# Altium footprint library VTS_demo.PcbLib: 8 footprints
Each footprint in its own frame and in the unit in brackets; x right, y up, seen from the top. Pads: shape width x height; smd on the part's side, far side on the other; paste and mask are expansions set on the pad; w line width, h text height; cw(c..) or ccw(c..) is an arc to the next point about the centre after c.
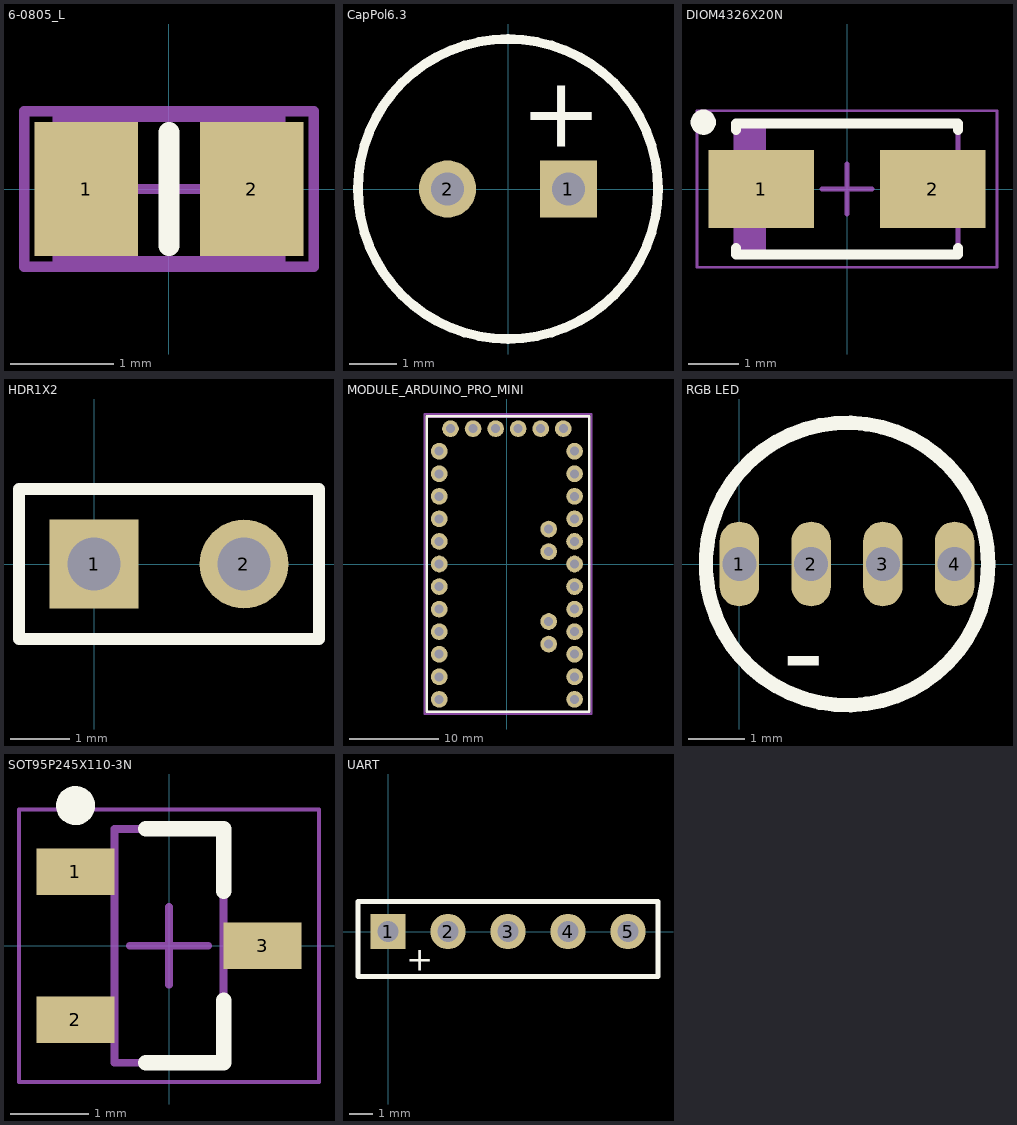
[diagram p0: the footprints below, top view; thin cyan lines are the x and y axes]

## 6-0805_L [mm] "Chip Resistor, Body 2.0x1.2mm, IPC High Density"
height 0.7
pads (2):
  rect 1x1.3 smd: 1(-0.8,0) 2(0.8,0)
Top Overlay:
  lines w0.2: 0,-0.55 0,0.55
Mechanical 13:
  lines w0.1: -1.075,-0.7 1.075,-0.7 1.075,0.7 -1.075,0.7 -1.075,-0.7
Mechanical 15:
  lines w0.1: -0.5,0 0.5,0 ; 0,-0.5 0,0.5 ; -1.4,-0.75 1.4,-0.75 1.4,0.75 -1.4,0.75 -1.4,-0.75
3D body: height 0.7, standoff 0, extent -1.075,-0.7 1.075,0.7

## CapPol6.3 [mm] "Polarized Capacitor (Radial); 2 Leads"
height 0.7
pads (2):
  rect 1.2x1.2 hole 0.7: 1(1.27,0)
  round 1.2 hole 0.7: 2(-1.27,0)
Top Overlay:
  circle w0.2: c0,0 r3.15
  text "+" at 0.254,0.889 h1.5

## DIOM4326X20N [mm] "Molded Diode, 2-Leads, Body 4.30x2.55mm, IPC Medium Density"
height 2
pads (2):
  rect 2.1x1.55 smd: 1(-1.7,0) 2(1.7,0)
Top Overlay:
  circle w0.25: c-2.85,1.325 r0.125
  lines w0.2: -2.2,-1.175 -2.2,-1.3 2.2,-1.3 2.2,-1.175 ; -2.2,1.175 -2.2,1.3 2.2,1.3 2.2,1.175
Assembly Top:
  rectangle: -2.2,-1.3 -1.608,1.3
  lines w0.1: -2.2,-1.3 2.2,-1.3 2.2,1.3 -2.2,1.3 -2.2,-1.3
Courtyard Top:
  lines w0.05: -2.975,-1.55 2.975,-1.55 2.975,1.55 -2.975,1.55 -2.975,-1.55
  lines w0.1: -0.5,0 0.5,0 ; 0,-0.5 0,0.5
3D body: height 2, standoff 0, extent -2.2,-1.3 2.2,1.3

## HDR1X2 [mm] "Connector; Header; 2 Position"
height 5.08
pads (2):
  rect 1.5x1.5 hole 0.9: 1(0,0)
  round 1.5 hole 0.9: 2(2.54,0)
Top Overlay:
  lines w0.2: -1.27,-1.27 3.81,-1.27 3.81,1.27 -1.27,1.27 -1.27,-1.27

## MODULE_ARDUINO_PRO_MINI [mil]
height 200
pads (34):
  round 74 hole 40: JP1_1(250,600) JP1_2(150,600) JP1_3(50,600) JP1_4(-50,600) JP1_5(-150,600) JP1_6(-250,600) JP2_1(185,55) JP2_2(185,155) JP3_1(185,-355) JP3_2(185,-255) JP6_1(300,500) JP6_2(300,400) JP6_3(300,300) JP6_4(300,200) JP6_5(300,100) JP6_6(300,0) JP6_7(300,-100) JP6_8(300,-200) JP6_9(300,-300) JP6_10(300,-400) JP6_11(300,-500) JP6_12(300,-600) JP7_1(-300,-600) JP7_2(-300,-500) JP7_3(-300,-400) JP7_4(-300,-300) JP7_5(-300,-200) JP7_6(-300,-100) JP7_7(-300,0) JP7_8(-300,100) JP7_9(-300,200) JP7_10(-300,300) JP7_11(-300,400) JP7_12(-300,500)
Top Overlay:
  lines w10: -355,-655 -355,655 365,655 365,-655 -355,-655
Mechanical 13:
  lines w1.97: -350,-650 -350,650 365,650 365,-655 -345,-655 -350,-650
Mechanical 15:
  lines w10: -365,-665 -365,665 375,665 375,-665 -365,-665

## RGB LED [mm] "5mm"
pads (4):
  oval 0.7x1.5 hole 0.6: 1(0,0) 2(1.27,0) 3(2.54,0) 4(3.81,0)
Top Overlay:
  circle w0.254: c1.905,0 r2.5
  text "-" at 0.762,-2.286 h1.52

## SOT95P245X110-3N [mm] "SOT23, 3-Leads, Body 2.90x2.45mm, Pitch 0.95mm, IPC Medium Density"
height 1.1
pads (3):
  rect 1x0.6 smd: 1(-1.2,0.95) 2(-1.2,-0.95) 3(1.2,0)
Top Overlay:
  circle w0.25: c-1.2,1.8 r0.125
  lines w0.2: -0.3,-1.5 0.7,-1.5 0.7,-0.7 ; -0.3,1.5 0.7,1.5 0.7,0.7
Assembly Top:
  lines w0.1: -0.7,-1.5 -0.7,1.5 0.7,1.5 0.7,-1.5 -0.7,-1.5
Courtyard Top:
  lines w0.05: -1.925,-1.75 -1.925,1.75 1.925,1.75 1.925,-1.75 -1.925,-1.75
  lines w0.1: -0.5,0 0.5,0 ; 0,-0.5 0,0.5
3D body: height 1.1, standoff 0.05, extent -0.7,-1.5 0.7,1.5

## UART [mm] "Connector; Header; 5 Position, UART, for uploading"
height 8.2
pads (5):
  rect 1.5x1.5 hole 0.9: 1(0,0)
  round 1.5 hole 0.9: 2(2.54,0) 3(5.08,0) 4(7.62,0) 5(10.16,0)
Top Overlay:
  lines w0.2: -1.27,-1.905 11.43,-1.905 11.43,1.27 -1.27,1.27 -1.27,-1.905
  text "+" at 0.762,-1.651 h1